# Altium footprint library Microcontrolador.PcbLib: 17 footprints (part 1 of 2)
Each footprint in its own frame and in the unit in brackets; x right, y up, seen from the top. Pads: shape width x height; smd on the part's side, far side on the other; paste and mask are expansions set on the pad; w line width, h text height; cw(c..) or ccw(c..) is an arc to the next point about the centre after c.
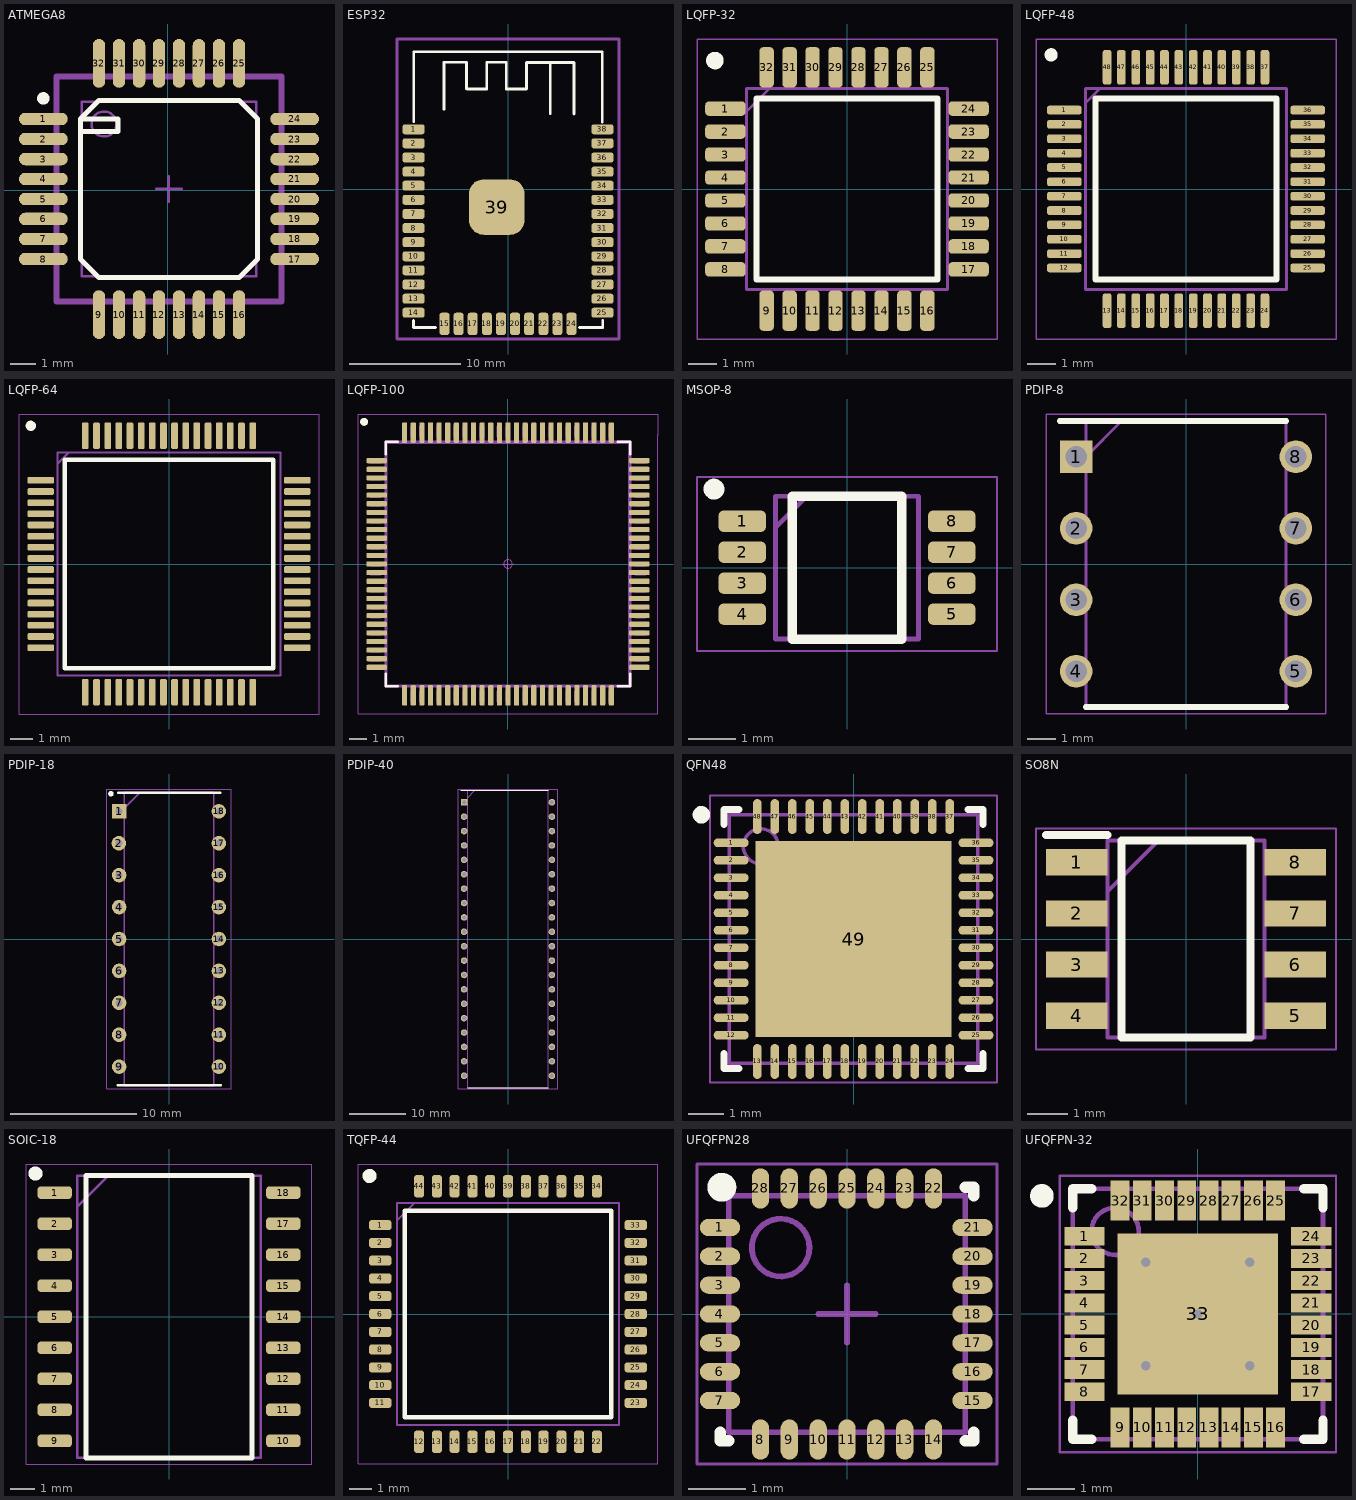
[diagram p0: the footprints below, top view; thin cyan lines are the x and y axes]

## ATMEGA8 [mm]
pads (32):
  oval 1.95x0.5 smd: 1(-4.975,2.85) 2(-4.975,2.05) 3(-4.975,1.25) 4(-4.975,0.45) 5(-4.975,-0.35) 6(-4.975,-1.15) 7(-4.975,-1.95) 8(-4.975,-2.75) 17(5.075,-2.75) 18(5.075,-1.95) 19(5.075,-1.15) 20(5.075,-0.35) 21(5.075,0.45) 22(5.075,1.25) 23(5.075,2.05) 24(5.075,2.85)
  oval 0.5x1.95 smd: 9(-2.75,-4.975) 10(-1.95,-4.975) 11(-1.15,-4.975) 12(-0.35,-4.975) 13(0.45,-4.975) 14(1.25,-4.975) 15(2.05,-4.975) 16(2.85,-4.975) 25(2.85,5.075) 26(2.05,5.075) 27(1.25,5.075) 28(0.45,5.075) 29(-0.35,5.075) 30(-1.15,5.075) 31(-1.95,5.075) 32(-2.75,5.075)
Top Overlay:
  circle w0.25: c-4.975,3.675 r0.125
  lines w0.2: -3.5,2.35 -2,2.35 -2,2.85 -3.5,2.85 ; -3.5,2.85 -2.75,3.6 2.85,3.6 3.6,2.85 3.6,-2.75 2.85,-3.5 -2.75,-3.5 -3.5,-2.75 -3.5,2.85
Mechanical 13:
  circle w0.1: c-2.55,2.65 r0.5
  lines w0.1: -3.45,-3.45 3.55,-3.45 3.55,3.55 -3.45,3.55 -3.45,-3.45
Mechanical 15:
  lines w0.1: -0.45,0.05 0.55,0.05 ; 0.05,-0.45 0.05,0.55
  lines w0.25: -4.45,-4.45 4.55,-4.45 4.55,4.55 -4.45,4.55 -4.45,-4.45
3D body: height 1.2, standoff 0.15, extent -3.45,-3.45 3.55,3.55

## ESP32 [mm]
pads (39):
  rrect52% 2x0.9 smd mask+0.102: 1(-8.5,5.375) 2(-8.5,4.105) 3(-8.5,2.835) 4(-8.5,1.565) 5(-8.5,0.295) 6(-8.5,-0.975) 7(-8.5,-2.245) 8(-8.5,-3.515) 9(-8.5,-4.785) 10(-8.5,-6.055) 11(-8.5,-7.325) 12(-8.5,-8.595) 13(-8.5,-9.865) 14(-8.5,-11.135) 25(8.5,-11.135) 26(8.5,-9.865) 27(8.5,-8.595) 28(8.5,-7.325) 29(8.5,-6.055) 30(8.5,-4.785) 31(8.5,-3.515) 32(8.5,-2.245) 33(8.5,-0.975) 34(8.5,0.295) 35(8.5,1.565) 36(8.5,2.835) 37(8.5,4.105) 38(8.5,5.375)
  rrect52% 0.9x2 smd mask+0.102: 15(-5.715,-12.135) 18(-1.905,-12.135) 19(-0.635,-12.135) 20(0.635,-12.135) 21(1.905,-12.135) 22(3.175,-12.135) 23(4.445,-12.135) 24(5.715,-12.135)
  rrect52% 0.9x2 smd: 16(-4.445,-12.135) 17(-3.175,-12.135)
  rrect52% 5x5 smd mask+0.102: 39(-1,-1.625)
Top Overlay:
  lines w0.254: -8.51,-11.845 -8.51,-12.475 -6.53,-12.475 ; -8.48,6.055 -8.48,12.355 8.46,12.355 ; -5.76,7.185 -5.76,11.405 -3.76,11.405 -3.73,11.375 -3.73,9.025 -3.7,8.995 -1.91,8.995 -1.91,11.385 -1.89,11.405 -0.18,11.405 -0.16,11.385 -0.16,9.005 1.67,9.005 1.67,11.375 5.94,11.375 5.94,6.755 ; 3.805,6.77 3.805,11.375 ; 6.44,-12.475 8.5,-12.475 8.52,-12.455 8.52,-11.845 ; 8.48,6.035 8.48,12.335
Mechanical 15:
  circle w0.05: c0,0 r0.25
  lines w0.05: -0.35,0 0.35,0 ; 0,-0.35 0,0.35
  lines w0.254: -10,-13.5 10,-13.5 10,13.5 -10,13.5 -10,-13.5
Mechanical 16:
  text ".Designator" at 0,0 h1.5
3D body "ESP32.stp": height 3.1, standoff 0, extent -9,-12.75 9,12.75

## LQFP-32 [mm]
pads (32):
  rrect50% 1.4x0.5 smd: 1(-4.238,2.8) 2(-4.238,2) 3(-4.238,1.2) 4(-4.238,0.4) 5(-4.238,-0.4) 6(-4.238,-1.2) 7(-4.238,-2) 8(-4.238,-2.8) 17(4.238,-2.8) 18(4.238,-2) 19(4.238,-1.2) 20(4.238,-0.4) 21(4.238,0.4) 22(4.238,1.2) 23(4.238,2) 24(4.238,2.8)
  rrect50% 0.5x1.4 smd: 9(-2.8,-4.238) 10(-2,-4.238) 11(-1.2,-4.238) 12(-0.4,-4.238) 13(0.4,-4.238) 14(1.2,-4.238) 15(2,-4.238) 16(2.8,-4.238) 25(2.8,4.238) 26(2,4.238) 27(1.2,4.238) 28(0.4,4.238) 29(-0.4,4.238) 30(-1.2,4.238) 31(-2,4.238) 32(-2.8,4.238)
Top Overlay:
  lines w0.2: -3.15,-3.15 3.15,-3.15 3.15,3.15 -3.15,3.15 -3.15,-3.15
  lines w0.4: -4.497,4.459 cw(c-4.6,4.475) -4.496,4.476
Mechanical 13:
  lines w0.1: -3.5,2.7 -2.7,3.5 ; -3.5,-3.5 3.5,-3.5 3.5,3.5 -3.5,3.5 -3.5,-3.5
Mechanical 15:
  lines w0.05: -5.225,-5.225 5.225,-5.225 5.225,5.225 -5.225,5.225 -5.225,-5.225
3D body "STM32F301K6T6.stp": height 1.6, standoff 0, extent -4.5,-4.5 4.5,4.5

## LQFP-48 [mm]
pads (48):
  rrect50% 1.2x0.3 smd: 1(-4.238,2.75) 2(-4.238,2.25) 3(-4.238,1.75) 4(-4.238,1.25) 5(-4.238,0.75) 6(-4.238,0.25) 7(-4.238,-0.25) 8(-4.238,-0.75) 9(-4.238,-1.25) 10(-4.238,-1.75) 11(-4.238,-2.25) 12(-4.238,-2.75) 25(4.238,-2.75) 26(4.238,-2.25) 27(4.238,-1.75) 28(4.238,-1.25) 29(4.238,-0.75) 30(4.238,-0.25) 31(4.238,0.25) 32(4.238,0.75) 33(4.238,1.25) 34(4.238,1.75) 35(4.238,2.25) 36(4.238,2.75)
  rrect50% 0.3x1.2 smd: 13(-2.75,-4.238) 14(-2.25,-4.238) 15(-1.75,-4.238) 16(-1.25,-4.238) 17(-0.75,-4.238) 18(-0.25,-4.238) 19(0.25,-4.238) 20(0.75,-4.238) 21(1.25,-4.238) 22(1.75,-4.238) 23(2.25,-4.238) 24(2.75,-4.238) 37(2.75,4.238) 38(2.25,4.238) 39(1.75,4.238) 40(1.25,4.238) 41(0.75,4.238) 42(0.25,4.238) 43(-0.25,4.238) 44(-0.75,4.238) 45(-1.25,4.238) 46(-1.75,4.238) 47(-2.25,4.238) 48(-2.75,4.238)
Top Overlay:
  circle w0.25: c-4.699,4.674 r0.105
  lines w0.2: -3.15,-3.15 -3.15,3.15 3.15,3.15 3.15,-3.15 -3.15,-3.15
Mechanical 13:
  lines w0.1: -3.5,3 -3,3.5 ; -3.5,-3.5 -3.5,3.5 3.5,3.5 3.5,-3.5 -3.5,-3.5
Mechanical 15:
  lines w0.05: -5.225,-5.225 -5.225,5.225 5.225,5.225 5.225,-5.225 -5.225,-5.225
3D body "STM32F042C4T6.stp": height 1.6, standoff 0, extent -4.5,-4.5 4.5,4.5

## LQFP-64 [mm]
pads (64):
  rrect50% 1.2x0.3 smd: 1(-5.75,3.75) 2(-5.75,3.25) 3(-5.75,2.75) 4(-5.75,2.25) 5(-5.75,1.75) 6(-5.75,1.25) 7(-5.75,0.75) 8(-5.75,0.25) 9(-5.75,-0.25) 10(-5.75,-0.75) 11(-5.75,-1.25) 12(-5.75,-1.75) 13(-5.75,-2.25) 14(-5.75,-2.75) 15(-5.75,-3.25) 16(-5.75,-3.75) 33(5.75,-3.75) 34(5.75,-3.25) 35(5.75,-2.75) 36(5.75,-2.25) 37(5.75,-1.75) 38(5.75,-1.25) 39(5.75,-0.75) 40(5.75,-0.25) 41(5.75,0.25) 42(5.75,0.75) 43(5.75,1.25) 44(5.75,1.75) 45(5.75,2.25) 46(5.75,2.75) 47(5.75,3.25) 48(5.75,3.75)
  rrect50% 0.3x1.2 smd: 17(-3.75,-5.75) 18(-3.25,-5.75) 19(-2.75,-5.75) 20(-2.25,-5.75) 21(-1.75,-5.75) 22(-1.25,-5.75) 23(-0.75,-5.75) 24(-0.25,-5.75) 25(0.25,-5.75) 26(0.75,-5.75) 27(1.25,-5.75) 28(1.75,-5.75) 29(2.25,-5.75) 30(2.75,-5.75) 31(3.25,-5.75) 32(3.75,-5.75) 49(3.75,5.75) 50(3.25,5.75) 51(2.75,5.75) 52(2.25,5.75) 53(1.75,5.75) 54(1.25,5.75) 55(0.75,5.75) 56(0.25,5.75) 57(-0.25,5.75) 58(-0.75,5.75) 59(-1.25,5.75) 60(-1.75,5.75) 61(-2.25,5.75) 62(-2.75,5.75) 63(-3.25,5.75) 64(-3.75,5.75)
Top Overlay:
  circle w0.25: c-6.198,6.198 r0.102
  lines w0.2: -4.675,-4.675 -4.675,4.675 4.675,4.675 4.675,-4.675 -4.675,-4.675
Mechanical 13:
  lines w0.1: -5,4.5 -4.5,5 ; -5,-5 -5,5 5,5 5,-5 -5,-5
Mechanical 15:
  lines w0.05: -6.725,-6.725 -6.725,6.725 6.725,6.725 6.725,-6.725 -6.725,-6.725
3D body "STM32F401RBT6.stp": height 1.6, standoff 0, extent -6,-6 6,6

## LQFP-100 [mm] "Quad Flat Pack (QFP), 0.50 mm pitch; square, 25 pin X 25 pin, 14.00 mm L X 14.00 mm W X 1.60 mm H body"
height 1.6
pads (100):
  rrect50% 1.2x0.3 smd: 1(-7.63,6) 2(-7.63,5.5) 3(-7.63,5) 4(-7.63,4.5) 5(-7.63,4) 6(-7.63,3.5) 7(-7.63,3) 8(-7.63,2.5) 9(-7.63,2) 10(-7.63,1.5) 11(-7.63,1) 12(-7.63,0.5) 13(-7.63,0) 14(-7.63,-0.5) 15(-7.63,-1) 16(-7.63,-1.5) 17(-7.63,-2) 18(-7.63,-2.5) 19(-7.63,-3) 20(-7.63,-3.5) 21(-7.63,-4) 22(-7.63,-4.5) 23(-7.63,-5) 24(-7.63,-5.5) 25(-7.63,-6) 51(7.63,-6) 52(7.63,-5.5) 53(7.63,-5) 54(7.63,-4.5) 55(7.63,-4) 56(7.63,-3.5) 57(7.63,-3) 58(7.63,-2.5) 59(7.63,-2) 60(7.63,-1.5) 61(7.63,-1) 62(7.63,-0.5) 63(7.63,0) 64(7.63,0.5) 65(7.63,1) 66(7.63,1.5) 67(7.63,2) 68(7.63,2.5) 69(7.63,3) 70(7.63,3.5) 71(7.63,4) 72(7.63,4.5) 73(7.63,5) 74(7.63,5.5) 75(7.63,6)
  rrect50% 0.3x1.2 smd: 26(-6,-7.63) 27(-5.5,-7.63) 28(-5,-7.63) 29(-4.5,-7.63) 30(-4,-7.63) 31(-3.5,-7.63) 32(-3,-7.63) 33(-2.5,-7.63) 34(-2,-7.63) 35(-1.5,-7.63) 36(-1,-7.63) 37(-0.5,-7.63) 38(0,-7.63) 39(0.5,-7.63) 40(1,-7.63) 41(1.5,-7.63) 42(2,-7.63) 43(2.5,-7.63) 44(3,-7.63) 45(3.5,-7.63) 46(4,-7.63) 47(4.5,-7.63) 48(5,-7.63) 49(5.5,-7.63) 50(6,-7.63) 76(6,7.63) 77(5.5,7.63) 78(5,7.63) 79(4.5,7.63) 80(4,7.63) 81(3.5,7.63) 82(3,7.63) 83(2.5,7.63) 84(2,7.63) 85(1.5,7.63) 86(1,7.63) 87(0.5,7.63) 88(0,7.63) 89(-0.5,7.63) 90(-1,7.63) 91(-1.5,7.63) 92(-2,7.63) 93(-2.5,7.63) 94(-3,7.63) 95(-3.5,7.63) 96(-4,7.63) 97(-4.5,7.63) 98(-5,7.63) 99(-5.5,7.63) 100(-6,7.63)
Top Overlay:
  circle w0.25: c-8.357,8.255 r0.102
  lines w0.15: -7.1,-6.39 -7.1,-7.1 -6.39,-7.1 ; -7.1,6.39 -7.1,7.1 -6.39,7.1 ; 6.39,-7.1 7.1,-7.1 7.1,-6.39 ; 6.39,7.1 7.1,7.1 7.1,6.39
Mechanical 11:
  lines w0.12: -7.1,-7.1 7.1,-7.1 7.1,7.1 -7.1,7.1 -7.1,-7.1
Mechanical 12:
  drawing of 400 lines, arcs and shapes, not listed
Mechanical 13:
  lines w0.025: -7,-7 -7,7 7,7 7,-7 -7,-7
Mechanical 15:
  circle w0.05: c0,0 r0.25
  lines w0.05: -0.35,0 0.35,0 ; 0,-0.35 0,0.35 ; -8.71,-8.71 -8.71,6.56 -8.71,8.71 -6.56,8.71 8.712,8.71 8.712,7.5 8.71,7.5 8.71,6.56 8.71,-6.56 8.71,-7.5 8.71,-8.71 -6.56,-8.71 -7.5,-8.71 -8.71,-8.71
3D body "QFP100P50_1600X1600X160L60X22.STEP": height 1.6, standoff 0, extent -7.974,-8 8.026,8

## MSOP-8 [mm]
pads (8):
  rrect50% 1x0.45 smd: 1(-2.2,0.975) 2(-2.2,0.325) 3(-2.2,-0.325) 4(-2.2,-0.975) 5(2.2,-0.975) 6(2.2,-0.325) 7(2.2,0.325) 8(2.2,0.975)
Top Overlay:
  circle w0.254: c-2.794,1.651 r0.092
  lines w0.2: -1.15,-1.5 1.15,-1.5 1.15,1.5 -1.15,1.5 -1.15,-1.5
Mechanical 13:
  lines w0.1: -1.5,0.85 -0.85,1.5 ; -1.5,-1.5 1.5,-1.5 1.5,1.5 -1.5,1.5 -1.5,-1.5
Mechanical 15:
  lines w0.05: -3.15,-1.75 3.15,-1.75 3.15,1.905 -3.15,1.905 -3.15,-1.75
3D body "PIC12F1501-I_MS.stp": height 1.1, standoff 0, extent -2.45,-1.5 2.45,1.5

## PDIP-8 [mm]
pads (8):
  rect 1.159x1.159 hole 0.759: 1(-3.905,3.81)
  round 1.159 hole 0.759: 2(-3.905,1.27) 3(-3.905,-1.27) 4(-3.905,-3.81) 5(3.905,-3.81) 6(3.905,-1.27) 7(3.905,1.27) 8(3.905,3.81)
Top Overlay:
  lines w0.2: -4.485,5.08 3.556,5.08 ; -3.556,-5.08 3.556,-5.08
Mechanical 13:
  lines w0.1: -3.556,3.81 -2.286,5.08 ; -3.556,-5.08 3.556,-5.08 3.556,5.08 -3.556,5.08 -3.556,-5.08
Mechanical 15:
  lines w0.05: -4.957,-5.33 4.957,-5.33 4.957,5.33 -4.957,5.33 -4.957,-5.33
3D body "ATTINY85-20PU.stp": height 5.33, standoff -3.5, extent -4.045,-4.75 4.045,4.75

## PDIP-18 [mil]
pads (18):
  rect 45.63x45.63 hole 22: 1(-156.26,400)
  round 45.63 hole 22: 2(-157,300) 3(-156.26,200) 4(-156.26,100) 5(-156.26,0) 6(-156.26,-100) 7(-156.26,-200) 8(-156.26,-300) 9(-156.26,-400) 10(156.26,-400) 11(156.26,-300) 12(156.26,-200) 13(156.26,-100) 14(156.26,0) 15(156.26,100) 16(156.26,200) 17(156.26,300) 18(156.26,400)
Top Overlay:
  circle w10: c-182,455 r3.61
  lines w7.87: -160.43,-458.66 161.42,-458.66 ; -158.46,458.66 160.59,458.66
Mechanical 13:
  lines w3.94: -140,410 -90,460 ; -140,-460 -140,460 140,460 140,-460 -140,-460
Mechanical 15:
  lines w1.97: -195.16,-469.84 195.16,-469.84 195.16,469.84 -195.16,469.84 -195.16,-469.84
3D body "PIC18F1220-I_P.stp": height 210, standoff -137.8, extent -163,-450 160.5,450

## PDIP-40 [mm]
pads (40):
  rect 1.16x1.16 hole 0.76: 1(-7.748,24.13)
  round 1.16 hole 0.76: 2(-7.748,21.59) 3(-7.748,19.05) 4(-7.748,16.51) 5(-7.748,13.97) 6(-7.748,11.43) 7(-7.748,8.89) 8(-7.748,6.35) 9(-7.748,3.81) 10(-7.748,1.27) 11(-7.748,-1.27) 12(-7.748,-3.81) 13(-7.748,-6.35) 14(-7.748,-8.89) 15(-7.748,-11.43) 16(-7.748,-13.97) 17(-7.748,-16.51) 18(-7.748,-19.05) 19(-7.748,-21.59) 20(-7.748,-24.13) 21(7.748,-24.13) 22(7.748,-21.59) 23(7.748,-19.05) 24(7.748,-16.51) 25(7.748,-13.97) 26(7.748,-11.43) 27(7.748,-8.89) 28(7.748,-6.35) 29(7.748,-3.81) 30(7.748,-1.27) 31(7.748,1.27) 32(7.748,3.81) 33(7.748,6.35) 34(7.748,8.89) 35(7.748,11.43) 36(7.748,13.97) 37(7.748,16.51) 38(7.748,19.05) 39(7.748,21.59) 40(7.748,24.13)
Top Overlay:
  lines w0.2: -8.328,26.225 7.11,26.225 ; -7.11,-26.225 7.11,-26.225
Mechanical 13:
  lines w0.1: -7.11,24.955 -5.84,26.225 ; -7.11,-26.225 7.11,-26.225 7.11,26.225 -7.11,26.225 -7.11,-26.225
Mechanical 15:
  lines w0.05: -8.77,-26.475 8.77,-26.475 8.77,26.475 -8.77,26.475 -8.77,-26.475
3D body "PIC18F4550-I_P.stp": height 4.83, standoff -3.5, extent -7.888,-26.097 7.888,26.097

## QFN48 [mm] "QFN, 48-Leads, Body 7,00x7,00mm, Pitch 0,50mm, Thermal Pad 5,60x5,60mm, IPC Medium Density"
height 0.55
pads (49):
  oval 1x0.25 smd: 1(-3.5,2.75) 2(-3.5,2.25) 3(-3.5,1.75) 4(-3.5,1.25) 5(-3.5,0.75) 6(-3.5,0.25) 7(-3.5,-0.25) 8(-3.5,-0.75) 9(-3.5,-1.25) 10(-3.5,-1.75) 11(-3.5,-2.25) 12(-3.5,-2.75) 25(3.5,-2.75) 26(3.5,-2.25) 27(3.5,-1.75) 28(3.5,-1.25) 29(3.5,-0.75) 30(3.5,-0.25) 31(3.5,0.25) 32(3.5,0.75) 33(3.5,1.25) 34(3.5,1.75) 35(3.5,2.25) 36(3.5,2.75)
  oval 0.25x1 smd: 13(-2.75,-3.5) 14(-2.25,-3.5) 15(-1.75,-3.5) 16(-1.25,-3.5) 17(-0.75,-3.5) 18(-0.25,-3.5) 19(0.25,-3.5) 20(0.75,-3.5) 21(1.25,-3.5) 22(1.75,-3.5) 23(2.25,-3.5) 24(2.75,-3.5) 37(2.75,3.5) 38(2.25,3.5) 39(1.75,3.5) 40(1.25,3.5) 41(0.75,3.5) 42(0.25,3.5) 43(-0.25,3.5) 44(-0.75,3.5) 45(-1.25,3.5) 46(-1.75,3.5) 47(-2.25,3.5) 48(-2.75,3.5)
  rect 5.6x5.6 smd: 49(0,0)
Top Overlay:
  circle w0.25: c-4.35,3.55 r0.125
  lines w0.2: -3.7,-3.275 -3.7,-3.7 -3.275,-3.7 ; -3.7,3.275 -3.7,3.7 -3.275,3.7 ; 3.275,-3.7 3.7,-3.7 3.7,-3.275 ; 3.275,3.7 3.7,3.7 3.7,3.275
Mechanical 13:
  circle w0.1: c-2.65,2.65 r0.5
  lines w0.1: -3.55,-3.55 -3.55,3.55 3.55,3.55 3.55,-3.55 -3.55,-3.55
Mechanical 15:
  lines w0.05: -4.1,-4.1 -4.1,4.1 4.1,4.1 4.1,-4.1 -4.1,-4.1
  lines w0.1: -0.5,0 0.5,0 ; 0,-0.5 0,0.5
3D body "QFN50P700X700X55_HS-49N.step": height 0.55, standoff 0, extent -3.57,-3.57 3.57,3.57

## SO8N [mm]
pads (8):
  rect 1.525x0.65 smd: 1(-2.712,1.905) 2(-2.712,0.635) 3(-2.712,-0.635) 4(-2.712,-1.905) 5(2.712,-1.905) 6(2.712,-0.635) 7(2.712,0.635) 8(2.712,1.905)
Top Overlay:
  lines w0.2: -3.475,2.58 -1.95,2.58 ; -1.6,-2.45 1.6,-2.45 1.6,2.45 -1.6,2.45 -1.6,-2.45
Mechanical 13:
  lines w0.1: -1.95,1.18 -0.68,2.45 ; -1.95,-2.45 1.95,-2.45 1.95,2.45 -1.95,2.45 -1.95,-2.45
Mechanical 15:
  lines w0.05: -3.725,-2.75 3.725,-2.75 3.725,2.75 -3.725,2.75 -3.725,-2.75
3D body "STM32G030J6M6.stp": height 1.75, standoff 0, extent -3,-2.45 3,2.45

## SOIC-18 [mm]
pads (18):
  rrect50% 1.4x0.51 smd: 1(-4.675,5.08) 2(-4.675,3.81) 3(-4.675,2.54) 4(-4.675,1.27) 5(-4.675,0) 6(-4.675,-1.27) 7(-4.675,-2.54) 8(-4.675,-3.81) 9(-4.675,-5.08) 10(4.675,-5.08) 11(4.675,-3.81) 12(4.675,-2.54) 13(4.675,-1.27) 14(4.675,0) 15(4.675,1.27) 16(4.675,2.54) 17(4.675,3.81) 18(4.675,5.08)
Top Overlay:
  lines w0.2: -3.4,-5.775 -3.4,5.775 3.4,5.775 3.4,-5.775 -3.4,-5.775
  lines w0.4: -5.379,5.889 ccw(c-5.464,5.861) -5.375,5.85
Mechanical 13:
  lines w0.1: -3.75,4.505 -2.48,5.775 ; -3.75,-5.775 -3.75,5.775 3.75,5.775 3.75,-5.775 -3.75,-5.775
Mechanical 15:
  lines w0.05: -5.85,-6.025 -5.85,6.25 5.85,6.25 5.85,-6.025 -5.85,-6.025
3D body "PIC18F1220-I_SO.stp": height 2.65, standoff 0, extent -5.15,-5.775 5.15,5.775

## TQFP-44 [mm]
pads (44):
  rrect50% 1x0.45 smd: 1(-5.75,4) 2(-5.75,3.2) 3(-5.75,2.4) 4(-5.75,1.6) 5(-5.75,0.8) 6(-5.75,0) 7(-5.75,-0.8) 8(-5.75,-1.6) 9(-5.75,-2.4) 10(-5.75,-3.2) 11(-5.75,-4) 23(5.75,-4) 24(5.75,-3.2) 25(5.75,-2.4) 26(5.75,-1.6) 27(5.75,-0.8) 28(5.75,0) 29(5.75,0.8) 30(5.75,1.6) 31(5.75,2.4) 32(5.75,3.2) 33(5.75,4)
  rrect50% 0.45x1 smd: 12(-4,-5.75) 13(-3.2,-5.75) 14(-2.4,-5.75) 15(-1.6,-5.75) 16(-0.8,-5.75) 17(0,-5.75) 18(0.8,-5.75) 19(1.6,-5.75) 20(2.4,-5.75) 21(3.2,-5.75) 22(4,-5.75) 34(4,5.75) 35(3.2,5.75) 36(2.4,5.75) 37(1.6,5.75) 38(0.8,5.75) 39(0,5.75) 40(-0.8,5.75) 41(-1.6,5.75) 42(-2.4,5.75) 43(-3.2,5.75) 44(-4,5.75)
Top Overlay:
  lines w0.2: -4.65,-4.65 -4.65,4.65 4.65,4.65 4.65,-4.65 -4.65,-4.65
  lines w0.4: -6.121,6.248 ccw(c-6.231,6.211) -6.115,6.203
Mechanical 13:
  lines w0.1: -5,4.2 -4.2,5 ; -5,-5 -5,5 5,5 5,-5 -5,-5
Mechanical 15:
  lines w0.05: -6.75,-6.75 -6.75,6.75 6.75,6.75 6.75,-6.75 -6.75,-6.75
3D body "ATXMEGA32A4U-ANR.stp": height 1.2, standoff 0, extent -6,-6 6,6

## UFQFPN28 [mm] "QFN, 28-Leads, Body 4,00x4,00mm, Pitch 0,50mm, Thermal Pad 3,30x3,30mm, IPC Medium Density"
height 0.6
pads (28):
  oval 0.7x0.3 smd: 1(-2.202,1.5) 2(-2.202,1) 3(-2.202,0.5) 4(-2.202,0) 5(-2.202,-0.5) 6(-2.202,-1) 7(-2.202,-1.5) 15(2.176,-1.5) 16(2.176,-1) 17(2.176,-0.5) 18(2.176,0) 19(2.176,0.5) 20(2.176,1) 21(2.176,1.5)
  oval 0.3x0.7 smd: 8(-1.5,-2.176) 9(-1,-2.176) 10(-0.5,-2.176) 11(0,-2.176) 12(0.5,-2.176) 13(1,-2.176) 14(1.5,-2.176) 22(1.5,2.176) 23(1,2.176) 24(0.5,2.176) 25(0,2.176) 26(-0.5,2.176) 27(-1,2.176) 28(-1.5,2.176)
Top Overlay:
  circle w0.25: c-2.17,2.196 r0.125
  lines w0.2: -2.2,-2.05 -2.2,-2.2 -2.05,-2.2 ; -2.2,2.05 -2.2,2.2 -2.05,2.2 ; 2.05,-2.2 2.2,-2.2 2.2,-2.05 ; 2.05,2.2 2.2,2.2 2.2,2.05
Mechanical 13:
  circle w0.1: c-1.15,1.15 r0.5
  lines w0.1: -2.05,-2.05 2.05,-2.05 2.05,2.05 -2.05,2.05 -2.05,-2.05
Mechanical 15:
  lines w0.05: -2.6,-2.6 2.6,-2.6 2.6,2.6 -2.6,2.6 -2.6,-2.6
  lines w0.1: -0.5,0 0.5,0 ; 0,-0.5 0,0.5
3D body "QFN50P400X400X60_HS-29N.step": height 0.6, standoff 0, extent -2.06,-2.06 2.06,2.06

## UFQFPN-32 [mm] "PQFN, 32-Leads, Body 5,30x5,30mm, Pitch 0,47mm, Thermal Pad 3,45x3,45mm, IPC Medium Density"
height 0.6
pads (33):
  rect 0.85x0.4 smd: 1(-2.401,1.645) 2(-2.401,1.175) 3(-2.401,0.705) 4(-2.401,0.235) 5(-2.401,-0.235) 6(-2.401,-0.705) 7(-2.401,-1.175) 8(-2.401,-1.645) 17(2.401,-1.645) 18(2.401,-1.175) 19(2.401,-0.705) 20(2.401,-0.235) 21(2.401,0.235) 22(2.401,0.705) 23(2.401,1.175) 24(2.401,1.645)
  rect 0.4x0.85 smd: 9(-1.645,-2.401) 10(-1.175,-2.401) 11(-0.705,-2.401) 12(-0.235,-2.401) 13(0.235,-2.401) 14(0.705,-2.401) 15(1.175,-2.401) 16(1.645,-2.401) 25(1.645,2.401) 26(1.175,2.401) 27(0.705,2.401) 28(0.235,2.401) 29(-0.235,2.401) 30(-0.705,2.401) 31(-1.175,2.401) 32(-1.645,2.401)
  rect 3.4x3.4 smd: 33(0,0)
via 1.1,-1.1 diameter 0.5 hole 0.2
via -1.1,-1.1 diameter 0.5 hole 0.2
via 0,0 diameter 0.5 hole 0.2
via 1.1,1.1 diameter 0.5 hole 0.2
via -1.1,1.1 diameter 0.5 hole 0.2
Top Overlay:
  circle w0.25: c-3.3,2.5 r0.125
  lines w0.2: -2.65,-2.245 -2.65,-2.65 -2.245,-2.65 ; -2.65,2.245 -2.65,2.65 -2.245,2.65 ; 2.245,-2.65 2.65,-2.65 2.65,-2.245 ; 2.245,2.65 2.65,2.65 2.65,2.245
Mechanical 13:
  circle w0.1: c-1.75,1.75 r0.5
  lines w0.1: -2.65,-2.65 2.65,-2.65 2.65,2.65 -2.65,2.65 -2.65,-2.65
Mechanical 15:
  lines w0.05: -2.925,-2.925 2.925,-2.925 2.925,2.925 -2.925,2.925 -2.925,-2.925
  lines w0.1: -0.5,0 0.5,0 ; 0,-0.5 0,0.5
3D body: height 0.6, standoff 0, extent -2.65,-2.65 2.65,2.65